# Altium schematic symbol library 93LC56BT.Schlib: 1 symbol
Pins are listed as number, name and electrical type; pins without a type are passive.

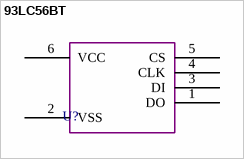
[diagram p0: symbol 93LC56BT]

## 93LC56BT
designator U?  (value not drawn)
pins: 1 DO, 2 VSS, 3 DI, 4 CLK, 5 CS, 6 VCC